# Altium footprint library Xuanyi_00.PcbLib: 21 footprints (part 2 of 2)
Each footprint in its own frame and in the unit in brackets; x right, y up, seen from the top. Pads: shape width x height; smd on the part's side, far side on the other; paste and mask are expansions set on the pad; w line width, h text height; cw(c..) or ccw(c..) is an arc to the next point about the centre after c.
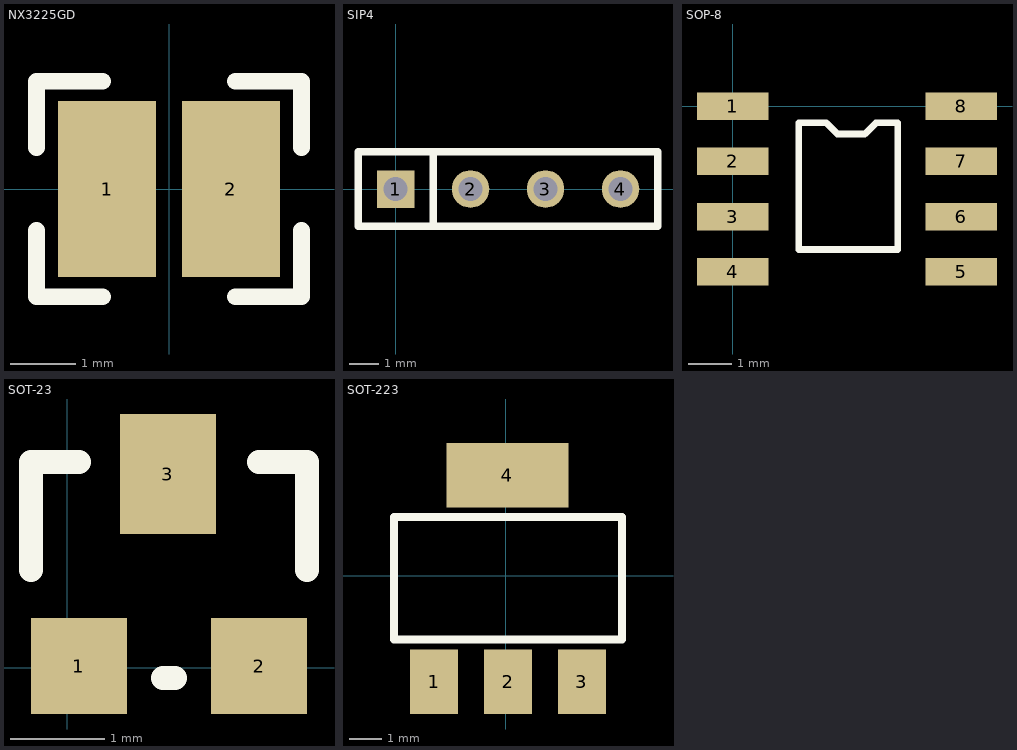
[diagram p1: the footprints below, top view; thin cyan lines are the x and y axes]

## NX3225GD [mm]
pads (2):
  rect 1.5x2.7 smd: 1(-0.95,0) 2(0.95,0)
Top Overlay:
  lines w0.254: -2.032,-0.635 -2.032,-1.651 -1.016,-1.651 ; -2.032,0.635 -2.032,1.651 -1.016,1.651 ; 1.016,-1.651 2.032,-1.651 2.032,-0.635 ; 1.016,1.651 2.032,1.651 2.032,0.635
3D body "User Library-ASE_series _ABRACON.STEP": height 1.2, standoff 0, extent -1.6,-1.25 1.6,1.25

## SIP4 [mil]
pads (4):
  rect 50x50 hole 32: 1(0,0)
  round 50 hole 32: 2(100,0) 3(200,0) 4(300,0)
Top Overlay:
  lines w10: 50,-50 50,50 ; -50,-50 -50,50 350,50 350,-50 -50,-50

## SOP-8 [mil]
height 43.31
pads (8):
  rect 65x25 smd: 1(0.07,0) 2(0,-50) 3(0,-100) 4(0,-150) 5(207.4,-150) 6(207.5,-100) 7(207.5,-50) 8(207.5,0)
Top Overlay:
  lines w6: 60,-130 60,-15 85,-15 95,-25 120,-25 130,-15 150,-15 150,-130 60,-130
3D body "sop-8.STEP": height 62.99, standoff 0, extent -16.94,-171.82 220.93,25.82

## SOT-23 [mil]
height 43.31
pads (3):
  rect 40x40 smd: 1(4.88,0.63) 2(79.88,0.63)
  rect 40x50 smd: 3(41.88,80.63)
Top Overlay:
  lines w10: -15.12,40.63 -15.12,85.63 4.88,85.63 ; 39.88,-4.37 44.88,-4.37 ; 79.88,85.63 99.88,85.63 99.88,40.63
3D body "SOT-23-3.STEP": height 47.24, standoff 0, extent -14.87,-11.02 99.3,99.22

## SOT-223 [mil]
height 43.31
pads (4):
  rect 59x79 smd: 1(-88,-130) 2(2.55,-130) 3(93.1,-130)
  rect 150x79 smd: 4(1.88,123.54)
Top Overlay:
  lines w10: -137.45,-78 142.55,-78 142.55,72 -137.45,72 -137.45,-78
3D body "SOT-223_MP04A.STEP": height 66.93, standoff 0, extent -126.41,-138.72 129.5,135.3